# Altium schematic symbol library SCH - MCU - STM32 - ST MICROELECTRONICS STM32WLE5JCIX UFBGA73.SchLib: 1 symbol
Pins are listed as number, name and electrical type; pins without a type are passive.

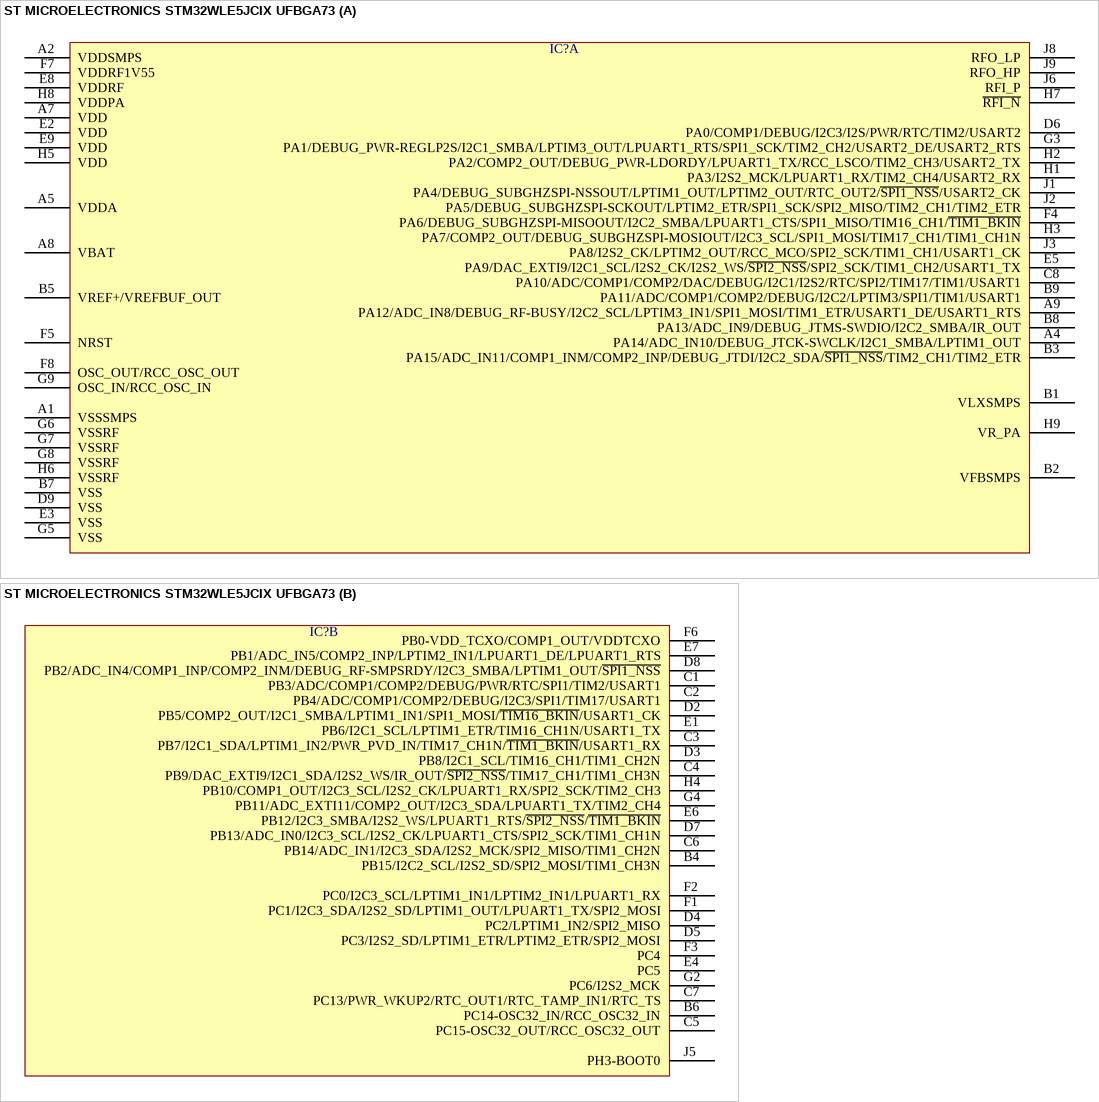
[diagram p0: symbol ST MICROELECTRONICS STM32WLE5JCIX UFBGA73]

## ST MICROELECTRONICS STM32WLE5JCIX UFBGA73
designator IC?  (value not drawn)
part A pins: A1 VSSSMPS, A2 VDDSMPS, A4 PA14/ADC_IN10/DEBUG_JTCK-SWCLK/I2C1_SMBA/LPTIM1_OUT, A5 VDDA, A7 VDD, A8 VBAT, A9 PA12/ADC_IN8/DEBUG_RF-BUSY/I2C2_SCL/LPTIM3_IN1/SPI1_MOSI/TIM1_ETR/USART1_DE/USART1_RTS, B1 VLXSMPS, B2 VFBSMPS, B3 PA15/ADC_IN11/COMP1_INM/COMP2_INP/DEBUG_JTDI/I2C2_SDA/~{SPI1_NSS}/TIM2_CH1/TIM2_ETR, B5 VREF+/VREFBUF_OUT, B7 VSS, B8 PA13/ADC_IN9/DEBUG_JTMS-SWDIO/I2C2_SMBA/IR_OUT, B9 PA11/ADC/COMP1/COMP2/DEBUG/I2C2/LPTIM3/SPI1/TIM1/USART1, C8 PA10/ADC/COMP1/COMP2/DAC/DEBUG/I2C1/I2S2/RTC/SPI2/TIM17/TIM1/USART1, D6 PA0/COMP1/DEBUG/I2C3/I2S/PWR/RTC/TIM2/USART2, D9 VSS, E2 VDD, E3 VSS, E5 PA9/DAC_EXTI9/I2C1_SCL/I2S2_CK/I2S2_WS/~{SPI2_NSS}/SPI2_SCK/TIM1_CH2/USART1_TX, E8 VDDRF, E9 VDD, F4 PA6/DEBUG_SUBGHZSPI-MISOOUT/I2C2_SMBA/LPUART1_CTS/SPI1_MISO/TIM16_CH1/~{TIM1_BKIN}, F5 NRST, F7 VDDRF1V55, F8 OSC_OUT/RCC_OSC_OUT, G3 PA1/DEBUG_PWR-REGLP2S/I2C1_SMBA/LPTIM3_OUT/LPUART1_RTS/SPI1_SCK/TIM2_CH2/USART2_DE/USART2_RTS, G5 VSS, G6 VSSRF, G7 VSSRF, G8 VSSRF, G9 OSC_IN/RCC_OSC_IN, H1 PA3/I2S2_MCK/LPUART1_RX/TIM2_CH4/USART2_RX, H2 PA2/COMP2_OUT/DEBUG_PWR-LDORDY/LPUART1_TX/RCC_LSCO/TIM2_CH3/USART2_TX, H3 PA7/COMP2_OUT/DEBUG_SUBGHZSPI-MOSIOUT/I2C3_SCL/SPI1_MOSI/TIM17_CH1/TIM1_CH1N, H5 VDD, H6 VSSRF, H7 ~{RFI_N}, H8 VDDPA, H9 VR_PA, J1 PA4/DEBUG_SUBGHZSPI-NSSOUT/LPTIM1_OUT/LPTIM2_OUT/RTC_OUT2/~{SPI1_NSS}/USART2_CK, J2 PA5/DEBUG_SUBGHZSPI-SCKOUT/LPTIM2_ETR/SPI1_SCK/SPI2_MISO/TIM2_CH1/TIM2_ETR, J3 PA8/I2S2_CK/LPTIM2_OUT/RCC_MCO/SPI2_SCK/TIM1_CH1/USART1_CK, J6 RFI_P, J8 RFO_LP, J9 RFO_HP
part B pins: B4 PB15/I2C2_SCL/I2S2_SD/SPI2_MOSI/TIM1_CH3N, B6 PC14-OSC32_IN/RCC_OSC32_IN, C1 PB3/ADC/COMP1/COMP2/DEBUG/PWR/RTC/SPI1/TIM2/USART1, C2 PB4/ADC/COMP1/COMP2/DEBUG/I2C3/SPI1/TIM17/USART1, C3 PB7/I2C1_SDA/LPTIM1_IN2/PWR_PVD_IN/TIM17_CH1N/~{TIM1_BKIN}/USART1_RX, C4 PB9/DAC_EXTI9/I2C1_SDA/I2S2_WS/IR_OUT/~{SPI2_NSS}/TIM17_CH1/TIM1_CH3N, C5 PC15-OSC32_OUT/RCC_OSC32_OUT, C6 PB14/ADC_IN1/I2C3_SDA/I2S2_MCK/SPI2_MISO/TIM1_CH2N, C7 PC13/PWR_WKUP2/RTC_OUT1/RTC_TAMP_IN1/RTC_TS, D2 PB5/COMP2_OUT/I2C1_SMBA/LPTIM1_IN1/SPI1_MOSI/~{TIM16_BKIN}/USART1_CK, D3 PB8/I2C1_SCL/TIM16_CH1/TIM1_CH2N, D4 PC2/LPTIM1_IN2/SPI2_MISO, D5 PC3/I2S2_SD/LPTIM1_ETR/LPTIM2_ETR/SPI2_MOSI, D7 PB13/ADC_IN0/I2C3_SCL/I2S2_CK/LPUART1_CTS/SPI2_SCK/TIM1_CH1N, D8 PB2/ADC_IN4/COMP1_INP/COMP2_INM/DEBUG_RF-SMPSRDY/I2C3_SMBA/LPTIM1_OUT/~{SPI1_NSS}, E1 PB6/I2C1_SCL/LPTIM1_ETR/TIM16_CH1N/USART1_TX, E4 PC5, E6 PB12/I2C3_SMBA/I2S2_WS/LPUART1_RTS/~{SPI2_NSS}/~{TIM1_BKIN}, E7 PB1/ADC_IN5/COMP2_INP/LPTIM2_IN1/LPUART1_DE/LPUART1_RTS, F1 PC1/I2C3_SDA/I2S2_SD/LPTIM1_OUT/LPUART1_TX/SPI2_MOSI, F2 PC0/I2C3_SCL/LPTIM1_IN1/LPTIM2_IN1/LPUART1_RX, F3 PC4, F6 PB0-VDD_TCXO/COMP1_OUT/VDDTCXO, G2 PC6/I2S2_MCK, G4 PB11/ADC_EXTI11/COMP2_OUT/I2C3_SDA/LPUART1_TX/TIM2_CH4, H4 PB10/COMP1_OUT/I2C3_SCL/I2S2_CK/LPUART1_RX/SPI2_SCK/TIM2_CH3, J5 PH3-BOOT0